# Altium integrated library TI Power Management DC-DC Controller (External Switch).IntLib: 349 symbols (part 4 of 28)
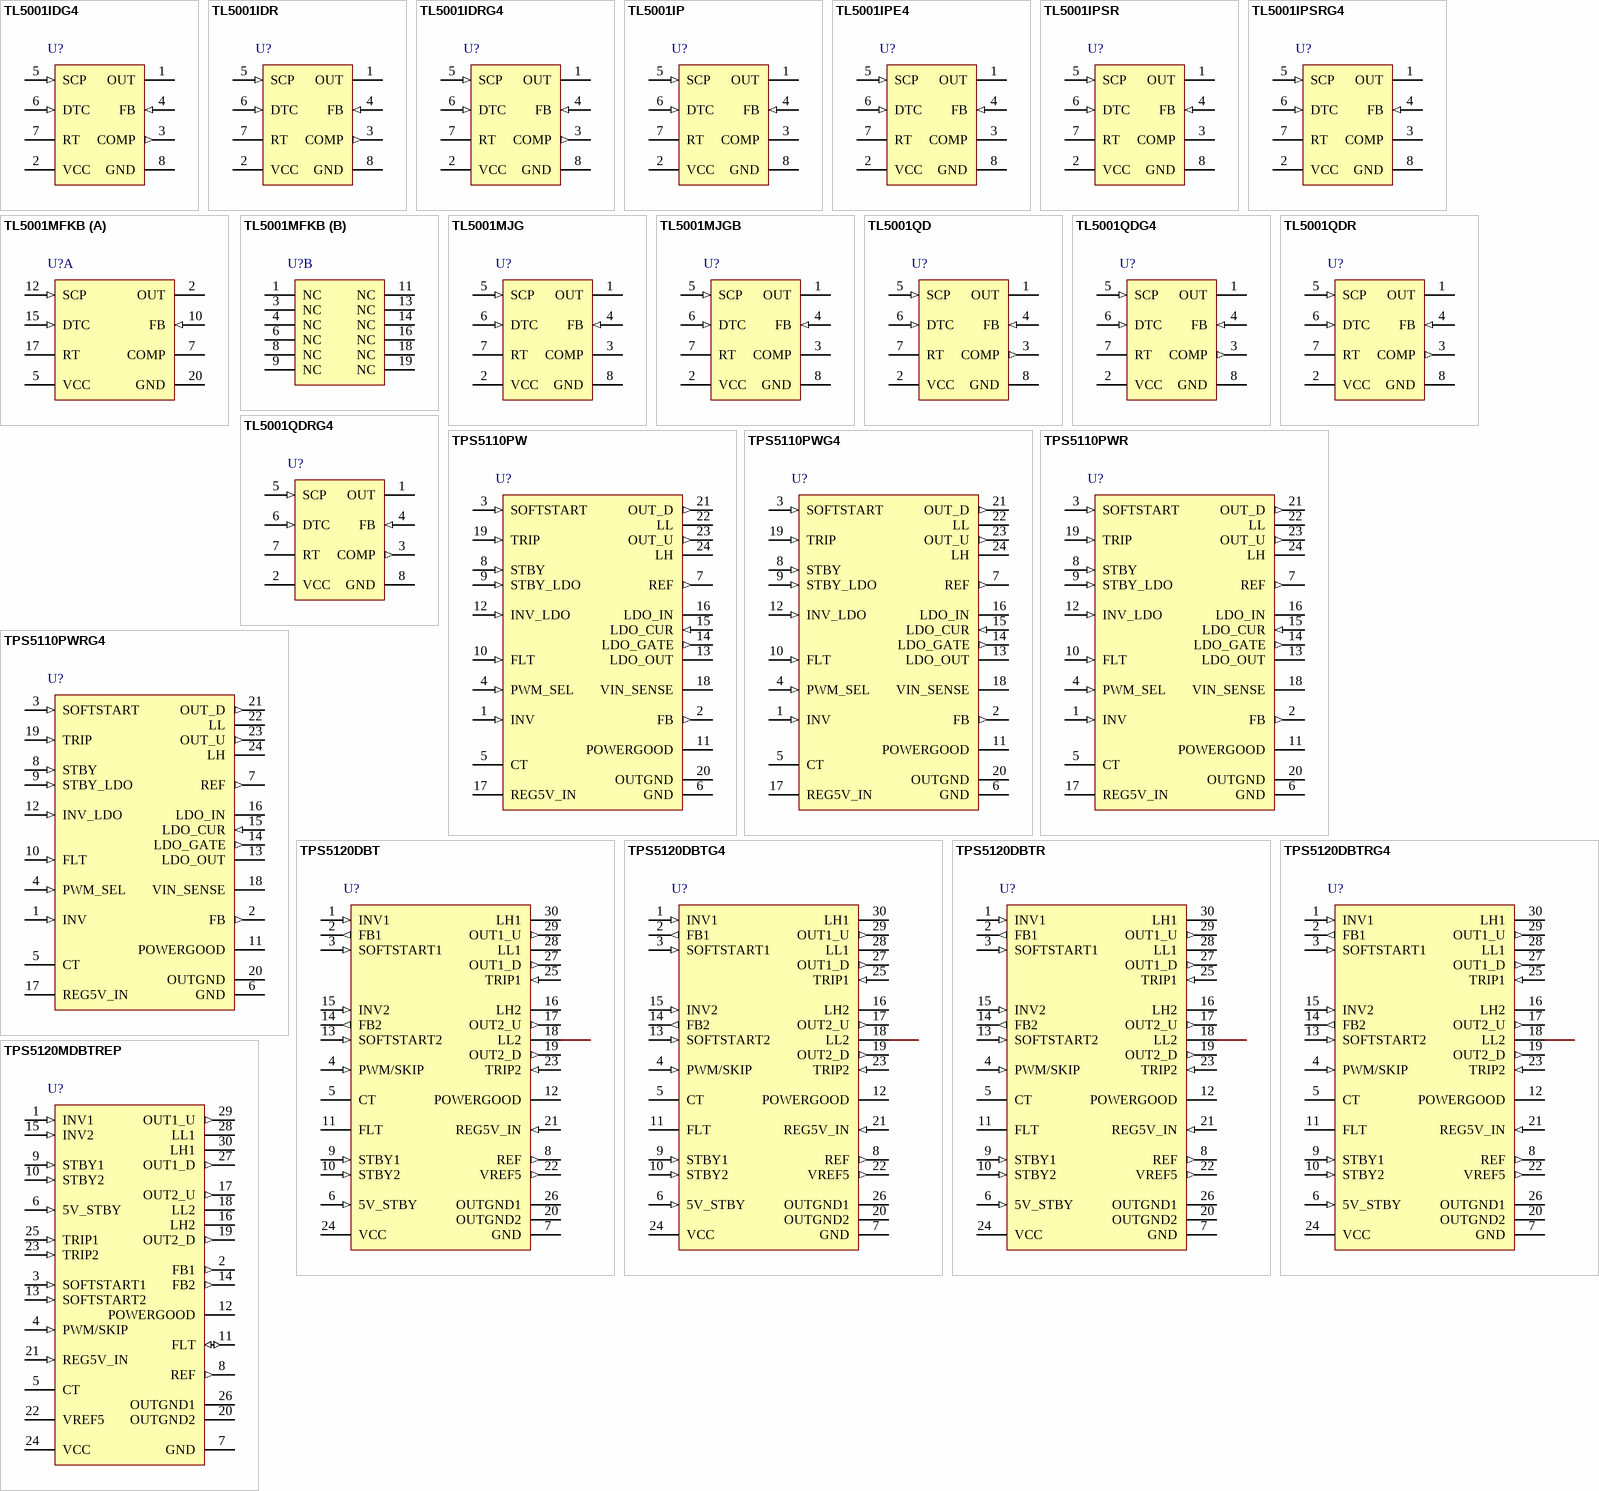
[diagram p17: symbols TL5001IDG4 to TPS5120MDBTREP]

## TPS5120DBTG4
designator U?
Dual Output, Two-Phase Synchronous Buck Controller with Wide Input Voltage Range, 80 % Duty Cycle, 4.5 to 28 V, -40 to 85 degC, 30-pin TSSOP (DBT), Green (RoHS & no Sb/Br); Manufacturer: Texas Instruments; PartNumber: TPS5120DBTG4; Duty Cycle(Max)(%): 80; Iout(Max)(A): 20; Iout2(A): 15; Regulated Outputs(#): 2; SubFamily: Multiple-Output Switching Controller; Switching Frequency(Max)(kHz): 500; Synchronous Rectification: TRUE; Vin(Max)(V): 28; Vin(Min)(V): 4.5; Vout(Max)(V): 26; Vout(Min)(V): 0.9; DatasheetVersion: SLVS278E; PackageVersion: Sep-2005; PackageReference: DBT30; PackageDescription: 30-Pin Thin Shrink Small Outline Package 0.5 mm Pitch; Supplier 1: Digi-Key; Supplier Part Number 1: TPS5120DBTG4-ND; Supplier 2: Farnell; Supplier Part Number 2: 1234735; Supplier 3: Newark; Supplier Part Number 3: 13M3290; Supplier 4: Mouser; Supplier Part Number 4: 595-TPS5120DBTG4; Eco-Plan: Green (RoHS & no Sb/Br); Topology: Buck; Vout2(Max)(V): 26; Vout2(Min)(V): 0.9; Mounting Technology: Surface Mount; Code_JEDEC: MO-153; ComponentLink1Description: Datasheet; ComponentLink1URL: http://www.ti.com/general/docs/lit/getliterature.tsp?genericPartNumber=TPS5120&fileType=pdf; ComponentLink2Description: Package Specification; ComponentLink2URL: http://www.ti.com/litv/pdf/mpds019h
footprint DBT30_N (TSSOP, 30-Leads, Body 7.8x4.4mm, Pitch 0.5mm, IPC Medium Density)
footprint DBT30_L (TSSOP, 30-Leads, Body 7.8x4.4mm, Pitch 0.5mm, IPC High Density)
footprint DBT30_M (TSSOP, 30-Leads, Body 7.8x4.4mm, Pitch 0.5mm, IPC Low Density)
pins: 1 INV1 (in) "Inverting input of the CH1 error amplifier, skip comparator, and OVP1/UVP1 comparator", 2 FB1 (out) "Feedback output of CH1 error amplifier", 3 SOFTSTART1 (in) "External capacitor from SOFTSTART1 to GND for CH1 softstart control. Separate soft-start terminals make it possible to set the start-up time of each output independently.", 4 PWM/SKIP (in) "PWM/SKIP mode select pin. The PWM/SKIP pin is used to change the output’s operating mode. If this terminal is lower than 0.5 V, it works in PWM mode. When a minimum voltage of 2 V is applied, the device operates in skip mode.(See Datasheet)", 5 CT "External capacitor from CT to GND for adjusting the triangle oscillator", 6 5V_STBY (in) "5-V linear regulator control", 7 GND (power) "Control GND", 8 REF (out) "0.85-V reference voltage output. The 0.85-V reference voltage is used for setting the output voltage and the voltage protection. This reference voltage is dropped down from a 5-V regulator.", 9 STBY1 (in) "Standby control for CH1. SMPS1 can be switched into standby mode separately by grounding the STBY1 pin.", 10 STBY2 (in) "Standby control for CH2. SMPS2 can be switched into standby mode separately by grounding the STBY2 pin.", 11 FLT "Fault latch timer pin. An external capacitor is connected between FLT and GND to set the FLT enable time up.", 12 POWERGOOD (oc) "Power good open-drain output. When low, POWERGOOD reports an output fail condition. PG comparators monitor both SMPS’s over voltage and UVLO of VREF5. The threshold is +/-7%. When the SMPS starts up, the POWERGOOD pin’s (See Datasheet)", 13 SOFTSTART2 (in) "External capacitor from SOFTSTART2 to GND for CH2 softstart control. Separate soft-start terminals make it possible to set the start-up time of each output independently.", 14 FB2 (out) "Feedback output of CH2 error amplifier", 15 INV2 (in) "Inverting input of the CH2 error amplifier, skip comparator, and OVP2/UVP2 comparator", 16 LH2 (power) "Bootstrap capacitor connection for CH2 high-side gate drive", 17 OUT2_U (out) "Gate drive output for CH2 high-side switching FETs", 18 LL2 (power) "Bootstrap this pin low for CH2 high-side gate driving return and output current protection. Connect this pin to the junction of the high-side and low-side FETs for a floating drive configuration.", 19 OUT2_D (out) "Gate drive output for CH2 low-side gate drive", 20 OUTGND2 (power) "Ground for CH2 FET drivers", 21 REG5V_IN (in) "External 5-V input", 22 VREF5 (out) "5-V internal regulator output", 23 TRIP2 (in) "External resistor connection for CH2 output current control", 24 VCC (power) "Supply voltage input", 25 TRIP1 (in) "External resistor connection for CH1 output current control", 26 OUTGND1 (power) "Ground for CH1 FET drivers", 27 OUT1_D (out) "Gate drive output for CH1 low-side gate drive", 28 LL1 (power) "Bootstrap this pin low for CH1 high-side gate driving return and output current protection. Connect this pin to the junction of the high-side and low-side FETs for a floating drive configuration.", 29 OUT1_U (out) "Gate drive output for CH1 high-side switching FETs", 30 LH1 (power) "Bootstrap capacitor connection for CH1 high-side gate drive"

## TPS5120DBTR
designator U?
Dual Output, Two-Phase Synchronous Buck Controller with Wide Input Voltage Range, 80 % Duty Cycle, 4.5 to 28 V, -40 to 85 degC, 30-pin TSSOP (DBT), Green (RoHS & no Sb/Br); Manufacturer: Texas Instruments; PartNumber: TPS5120DBTR; Duty Cycle(Max)(%): 80; Iout(Max)(A): 20; Iout2(A): 15; Regulated Outputs(#): 2; SubFamily: Multiple-Output Switching Controller; Switching Frequency(Max)(kHz): 500; Synchronous Rectification: TRUE; Vin(Max)(V): 28; Vin(Min)(V): 4.5; Vout(Max)(V): 26; Vout(Min)(V): 0.9; DatasheetVersion: SLVS278E; PackageVersion: Sep-2005; PackageReference: DBT30; PackageDescription: 30-Pin Thin Shrink Small Outline Package 0.5 mm Pitch; Supplier 1: Digi-Key; Supplier Part Number 1: 296-26979-2-ND; Supplier 2: Digi-Key; Supplier Part Number 2: 296-26979-1-ND; Supplier 3: Digi-Key; Supplier Part Number 3: 296-26979-6-ND; Supplier 4: Mouser; Supplier Part Number 4: 595-TPS5120DBTR; Eco-Plan: Green (RoHS & no Sb/Br); Topology: Buck; Vout2(Max)(V): 26; Vout2(Min)(V): 0.9; Mounting Technology: Surface Mount; Code_JEDEC: MO-153; ComponentLink1Description: Datasheet; ComponentLink1URL: http://www.ti.com/general/docs/lit/getliterature.tsp?genericPartNumber=TPS5120&fileType=pdf; ComponentLink2Description: Package Specification; ComponentLink2URL: http://www.ti.com/litv/pdf/mpds019h
footprint DBT30_N (TSSOP, 30-Leads, Body 7.8x4.4mm, Pitch 0.5mm, IPC Medium Density)
footprint DBT30_L (TSSOP, 30-Leads, Body 7.8x4.4mm, Pitch 0.5mm, IPC High Density)
footprint DBT30_M (TSSOP, 30-Leads, Body 7.8x4.4mm, Pitch 0.5mm, IPC Low Density)
pins: 1 INV1 (in) "Inverting input of the CH1 error amplifier, skip comparator, and OVP1/UVP1 comparator", 2 FB1 (out) "Feedback output of CH1 error amplifier", 3 SOFTSTART1 (in) "External capacitor from SOFTSTART1 to GND for CH1 softstart control. Separate soft-start terminals make it possible to set the start-up time of each output independently.", 4 PWM/SKIP (in) "PWM/SKIP mode select pin. The PWM/SKIP pin is used to change the output’s operating mode. If this terminal is lower than 0.5 V, it works in PWM mode. When a minimum voltage of 2 V is applied, the device operates in skip mode.(See Datasheet)", 5 CT "External capacitor from CT to GND for adjusting the triangle oscillator", 6 5V_STBY (in) "5-V linear regulator control", 7 GND (power) "Control GND", 8 REF (out) "0.85-V reference voltage output. The 0.85-V reference voltage is used for setting the output voltage and the voltage protection. This reference voltage is dropped down from a 5-V regulator.", 9 STBY1 (in) "Standby control for CH1. SMPS1 can be switched into standby mode separately by grounding the STBY1 pin.", 10 STBY2 (in) "Standby control for CH2. SMPS2 can be switched into standby mode separately by grounding the STBY2 pin.", 11 FLT "Fault latch timer pin. An external capacitor is connected between FLT and GND to set the FLT enable time up.", 12 POWERGOOD (oc) "Power good open-drain output. When low, POWERGOOD reports an output fail condition. PG comparators monitor both SMPS’s over voltage and UVLO of VREF5. The threshold is +/-7%. When the SMPS starts up, the POWERGOOD pin’s (See Datasheet)", 13 SOFTSTART2 (in) "External capacitor from SOFTSTART2 to GND for CH2 softstart control. Separate soft-start terminals make it possible to set the start-up time of each output independently.", 14 FB2 (out) "Feedback output of CH2 error amplifier", 15 INV2 (in) "Inverting input of the CH2 error amplifier, skip comparator, and OVP2/UVP2 comparator", 16 LH2 (power) "Bootstrap capacitor connection for CH2 high-side gate drive", 17 OUT2_U (out) "Gate drive output for CH2 high-side switching FETs", 18 LL2 (power) "Bootstrap this pin low for CH2 high-side gate driving return and output current protection. Connect this pin to the junction of the high-side and low-side FETs for a floating drive configuration.", 19 OUT2_D (out) "Gate drive output for CH2 low-side gate drive", 20 OUTGND2 (power) "Ground for CH2 FET drivers", 21 REG5V_IN (in) "External 5-V input", 22 VREF5 (out) "5-V internal regulator output", 23 TRIP2 (in) "External resistor connection for CH2 output current control", 24 VCC (power) "Supply voltage input", 25 TRIP1 (in) "External resistor connection for CH1 output current control", 26 OUTGND1 (power) "Ground for CH1 FET drivers", 27 OUT1_D (out) "Gate drive output for CH1 low-side gate drive", 28 LL1 (power) "Bootstrap this pin low for CH1 high-side gate driving return and output current protection. Connect this pin to the junction of the high-side and low-side FETs for a floating drive configuration.", 29 OUT1_U (out) "Gate drive output for CH1 high-side switching FETs", 30 LH1 (power) "Bootstrap capacitor connection for CH1 high-side gate drive"

## TPS5120DBTRG4
designator U?
Dual Output, Two-Phase Synchronous Buck Controller with Wide Input Voltage Range, 80 % Duty Cycle, 4.5 to 28 V, -40 to 85 degC, 30-pin TSSOP (DBT), Green (RoHS & no Sb/Br); Manufacturer: Texas Instruments; PartNumber: TPS5120DBTRG4; Duty Cycle(Max)(%): 80; Iout(Max)(A): 20; Iout2(A): 15; Regulated Outputs(#): 2; SubFamily: Multiple-Output Switching Controller; Switching Frequency(Max)(kHz): 500; Synchronous Rectification: TRUE; Vin(Max)(V): 28; Vin(Min)(V): 4.5; Vout(Max)(V): 26; Vout(Min)(V): 0.9; DatasheetVersion: SLVS278E; PackageVersion: Sep-2005; PackageReference: DBT30; PackageDescription: 30-Pin Thin Shrink Small Outline Package 0.5 mm Pitch; Supplier 1: Digi-Key; Supplier Part Number 1: TPS5120DBTRG4-ND; Supplier 2: Mouser; Supplier Part Number 2: 595-TPS5120DBTRG4; Eco-Plan: Green (RoHS & no Sb/Br); Topology: Buck; Vout2(Max)(V): 26; Vout2(Min)(V): 0.9; Mounting Technology: Surface Mount; Code_JEDEC: MO-153; ComponentLink1Description: Datasheet; ComponentLink1URL: http://www.ti.com/general/docs/lit/getliterature.tsp?genericPartNumber=TPS5120&fileType=pdf; ComponentLink2Description: Package Specification; ComponentLink2URL: http://www.ti.com/litv/pdf/mpds019h
footprint DBT30_N (TSSOP, 30-Leads, Body 7.8x4.4mm, Pitch 0.5mm, IPC Medium Density)
footprint DBT30_L (TSSOP, 30-Leads, Body 7.8x4.4mm, Pitch 0.5mm, IPC High Density)
footprint DBT30_M (TSSOP, 30-Leads, Body 7.8x4.4mm, Pitch 0.5mm, IPC Low Density)
pins: 1 INV1 (in) "Inverting input of the CH1 error amplifier, skip comparator, and OVP1/UVP1 comparator", 2 FB1 (out) "Feedback output of CH1 error amplifier", 3 SOFTSTART1 (in) "External capacitor from SOFTSTART1 to GND for CH1 softstart control. Separate soft-start terminals make it possible to set the start-up time of each output independently.", 4 PWM/SKIP (in) "PWM/SKIP mode select pin. The PWM/SKIP pin is used to change the output’s operating mode. If this terminal is lower than 0.5 V, it works in PWM mode. When a minimum voltage of 2 V is applied, the device operates in skip mode.(See Datasheet)", 5 CT "External capacitor from CT to GND for adjusting the triangle oscillator", 6 5V_STBY (in) "5-V linear regulator control", 7 GND (power) "Control GND", 8 REF (out) "0.85-V reference voltage output. The 0.85-V reference voltage is used for setting the output voltage and the voltage protection. This reference voltage is dropped down from a 5-V regulator.", 9 STBY1 (in) "Standby control for CH1. SMPS1 can be switched into standby mode separately by grounding the STBY1 pin.", 10 STBY2 (in) "Standby control for CH2. SMPS2 can be switched into standby mode separately by grounding the STBY2 pin.", 11 FLT "Fault latch timer pin. An external capacitor is connected between FLT and GND to set the FLT enable time up.", 12 POWERGOOD (oc) "Power good open-drain output. When low, POWERGOOD reports an output fail condition. PG comparators monitor both SMPS’s over voltage and UVLO of VREF5. The threshold is +/-7%. When the SMPS starts up, the POWERGOOD pin’s (See Datasheet)", 13 SOFTSTART2 (in) "External capacitor from SOFTSTART2 to GND for CH2 softstart control. Separate soft-start terminals make it possible to set the start-up time of each output independently.", 14 FB2 (out) "Feedback output of CH2 error amplifier", 15 INV2 (in) "Inverting input of the CH2 error amplifier, skip comparator, and OVP2/UVP2 comparator", 16 LH2 (power) "Bootstrap capacitor connection for CH2 high-side gate drive", 17 OUT2_U (out) "Gate drive output for CH2 high-side switching FETs", 18 LL2 (power) "Bootstrap this pin low for CH2 high-side gate driving return and output current protection. Connect this pin to the junction of the high-side and low-side FETs for a floating drive configuration.", 19 OUT2_D (out) "Gate drive output for CH2 low-side gate drive", 20 OUTGND2 (power) "Ground for CH2 FET drivers", 21 REG5V_IN (in) "External 5-V input", 22 VREF5 (out) "5-V internal regulator output", 23 TRIP2 (in) "External resistor connection for CH2 output current control", 24 VCC (power) "Supply voltage input", 25 TRIP1 (in) "External resistor connection for CH1 output current control", 26 OUTGND1 (power) "Ground for CH1 FET drivers", 27 OUT1_D (out) "Gate drive output for CH1 low-side gate drive", 28 LL1 (power) "Bootstrap this pin low for CH1 high-side gate driving return and output current protection. Connect this pin to the junction of the high-side and low-side FETs for a floating drive configuration.", 29 OUT1_U (out) "Gate drive output for CH1 high-side switching FETs", 30 LH1 (power) "Bootstrap capacitor connection for CH1 high-side gate drive"

## TPS5120MDBTREP
designator U?
Enhanced Product Dual Output Two-Phase Synchronous Buck DC / DC Controller, 100 % Duty Cycle, 4.5 to 28 V, -55 to 125 degC, 30-pin TSSOP (DBT), Green (RoHS & no Sb/Br); Manufacturer: Texas Instruments; PartNumber: TPS5120MDBTREP; Duty Cycle(Max)(%): 100; Iout(Max)(A): 1.5; Regulated Outputs(#): 2; SubFamily: Multiple-Output Switching Controller; Switching Frequency(Max)(kHz): 500; Vin(Max)(V): 28; Vin(Min)(V): 4.5; DatasheetVersion: SGLS224A; PackageVersion: Sep-2005; PackageReference: DBT30; PackageDescription: 30-Pin Thin Shrink Small Outline Package 0.5 mm Pitch; Supplier 1: Digi-Key; Supplier Part Number 1: 296-21272-2-ND; Supplier 2: Digi-Key; Supplier Part Number 2: 296-21272-1-ND; Supplier 3: Digi-Key; Supplier Part Number 3: 296-21272-6-ND; Supplier 4: Newark; Supplier Part Number 4: 46M1111; Supplier 5: Mouser; Supplier Part Number 5: 595-TPS5120MDBTREP; Eco-Plan: Green (RoHS & no Sb/Br); Topology: Buck; Mounting Technology: Surface Mount; Code_JEDEC: MO-153; ComponentLink1Description: Datasheet; ComponentLink1URL: http://www.ti.com/general/docs/lit/getliterature.tsp?genericPartNumber=TPS5120-EP&fileType=pdf; ComponentLink2Description: Package Specification; ComponentLink2URL: http://www.ti.com/litv/pdf/mpds019h
footprint DBT30_N (TSSOP, 30-Leads, Body 7.8x4.4mm, Pitch 0.5mm, IPC Medium Density)
footprint DBT30_L (TSSOP, 30-Leads, Body 7.8x4.4mm, Pitch 0.5mm, IPC High Density)
footprint DBT30_M (TSSOP, 30-Leads, Body 7.8x4.4mm, Pitch 0.5mm, IPC Low Density)
pins: 1 INV1 (in) "Inverting input of the CH1 error amplifier, skip comparator, and OVP1/UVP1 comparator", 2 FB1 (out) "Feedback output of CH1 error amplifier", 3 SOFTSTART1 (in) "External capacitor from SOFTSTART1 to GND for CH1 softstart control. Separate soft-start terminals make it possible to set the start-up time of each output independently", 4 PWM/SKIP (in) "PWM/SKIP mode select pin. The PWM/SKIP pin is used to change the output’s operating mode. If this terminal is lower than 0.5 V, it works in PWM mode. When a minimum voltage of 2 V is applied, the device operates in skip mode.(See Datasheet)", 5 CT "External capacitor from CT to GND for adjusting the triangle oscillator", 6 5V_STBY (in) "5-V linear regulator control", 7 GND (power) "Control GND", 8 REF (out) "0.85-V reference voltage output. The 0.85-V reference voltage is used for setting the output voltage and the voltage protection. This reference voltage is dropped down from a 5-V regulator", 9 STBY1 (in) "Standby control for CH1. SMPS1 can be switched into standby mode separately by grounding the STBY1 pin.", 10 STBY2 (in) "Standby control for CH2. SMPS2 can be switched into standby mode separately by grounding the STBY2 pin.", 11 FLT (io) "Fault latch timer pin. An external capacitor is connected between FLT and GND to set the FLT enable time up", 12 POWERGOOD (oc) "Power good open-drain output. When low, POWERGOOD reports an output fail condition. PG comparators monitor both SMPS’s over voltage and UVLO of VREF5. The threshold is +/-7%. When the SMPS starts up, the POWERGOOD pin’s (See Datasheet)", 13 SOFTSTART2 (in) "External capacitor from SOFTSTART2 to GND for CH2 softstart control. Separate soft-start terminals make it possible to set the start-up time of each output independently.", 14 FB2 (out) "Feedback output of CH2 error amplifier", 15 INV2 (in) "Inverting input of the CH2 error amplifier, skip comparator, and OVP2/UVP2 comparator", 16 LH2 (power) "Bootstrap capacitor connection for CH2 high-side gate drive", 17 OUT2_U (out) "Gate drive output for CH2 high-side switching FETs", 18 LL2 (power) "Bootstrap this pin low for CH2 high-side gate driving return and output current protection. Connect this pin to the junction of the high-side and low-side FETs for a floating drive configuration", 19 OUT2_D (out) "Gate drive output for CH2 low-side gate drive", 20 OUTGND2 (power) "Ground for CH2 FET drivers", 21 REG5V_IN (in) "External 5-V input", 22 VREF5 (power) "5-V internal regulator output", 23 TRIP2 (in) "External resistor connection for CH2 output current control", 24 VCC (power) "Supply voltage input", 25 TRIP1 (in) "External resistor connection for CH1 output current control", 26 OUTGND1 (power) "Ground for CH1 FET drivers", 27 OUT1_D (out) "Gate drive output for CH1 low-side gate drive", 28 LL1 (power) "Bootstrap this pin low for CH1 high-side gate driving return and output current protection. Connect this pin to the junction of the high-side and low-side FETs for a floating drive configuration", 29 OUT1_U (out) "Gate drive output for CH1 high-side switching FETs", 30 LH1 (power) "Bootstrap capacitor connection for CH1 high-side gate drive"

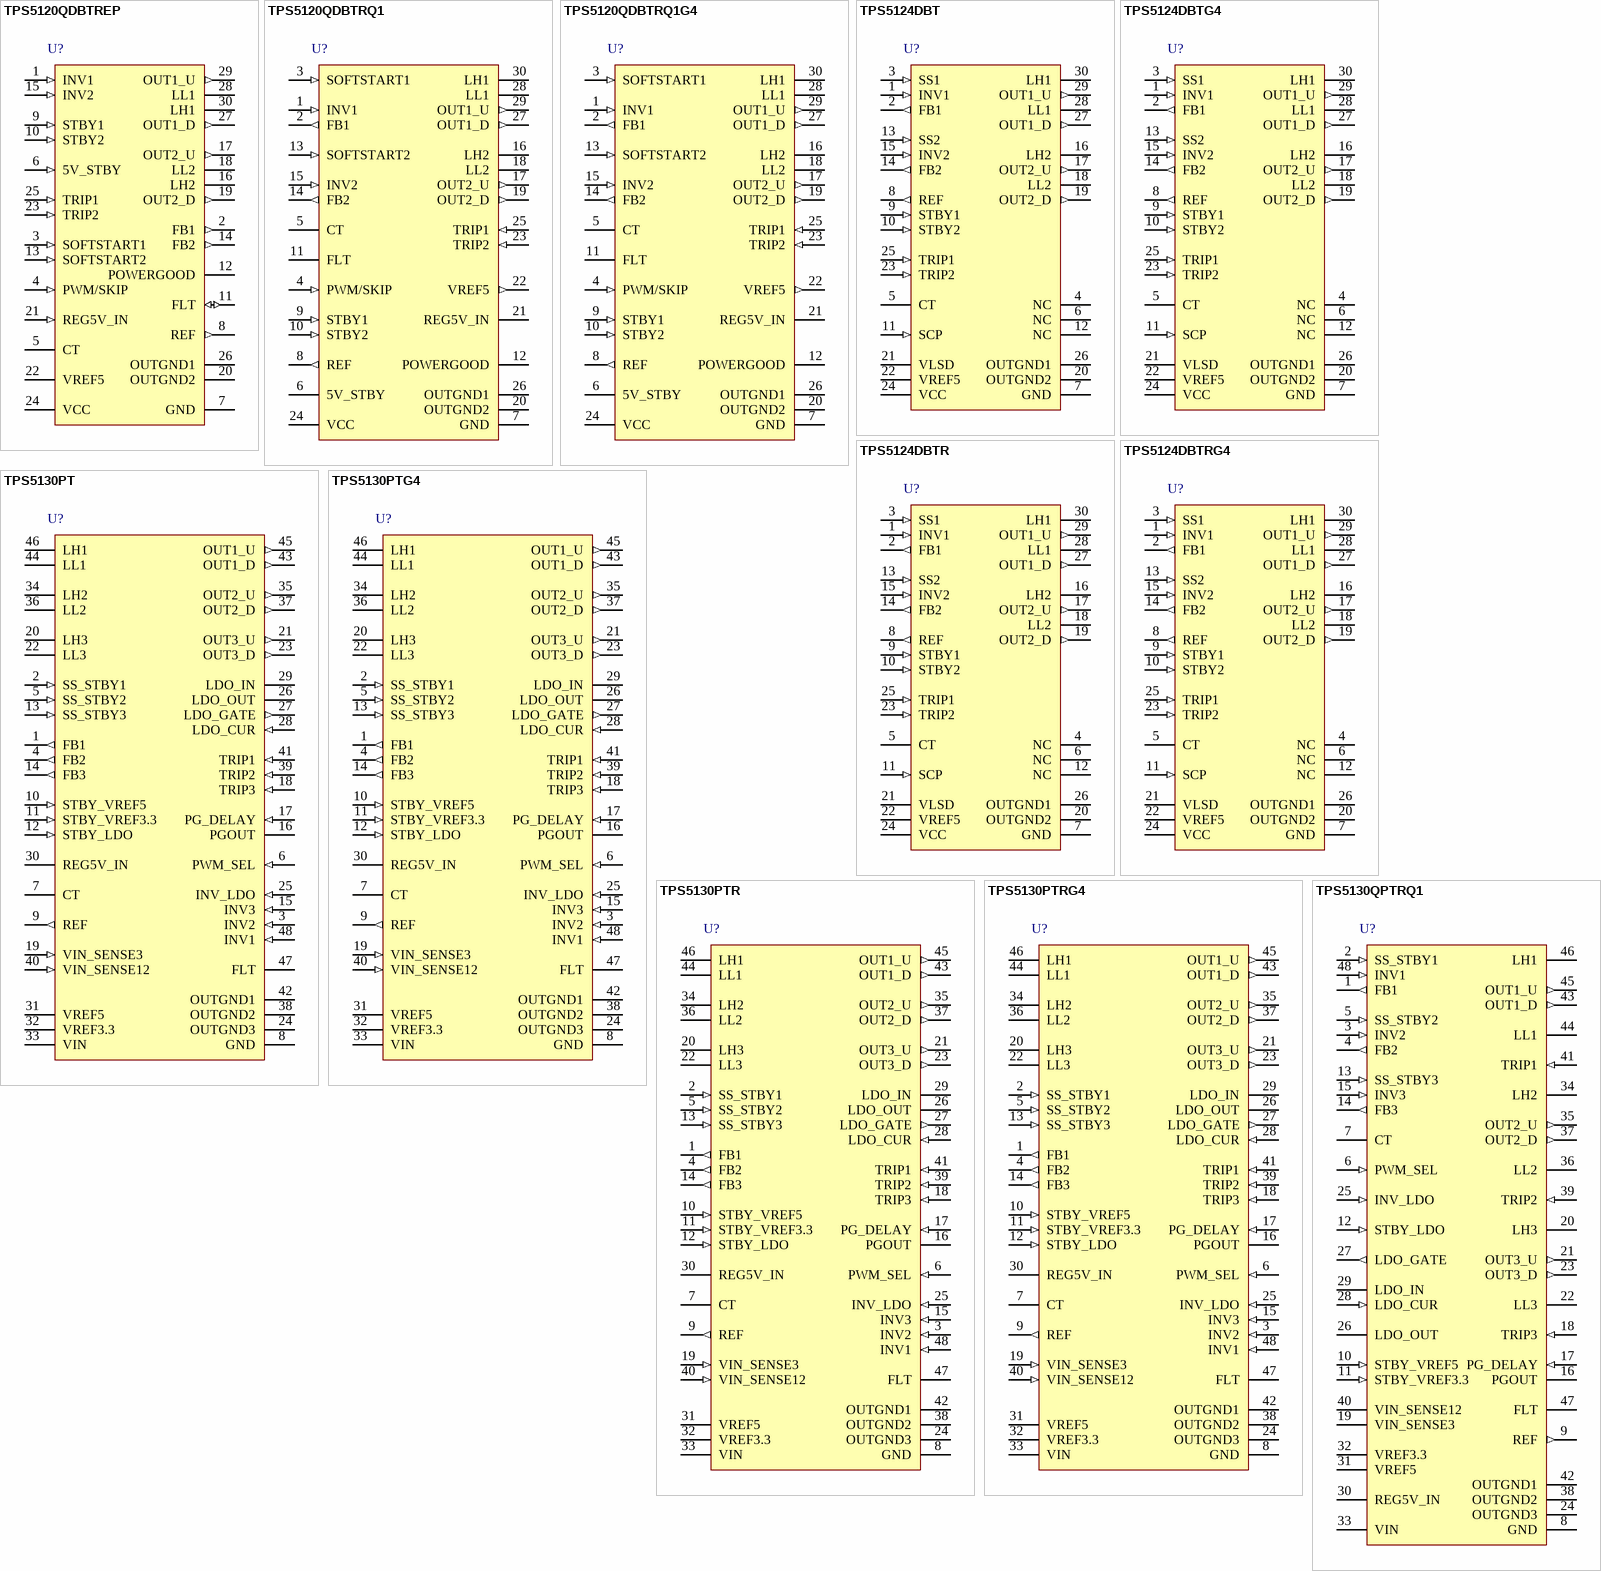
[diagram p3: symbols TPS5120QDBTREP to TPS5130QPTRQ1]

## TPS5120QDBTREP
designator U?
Enhanced Product Dual Output Two-Phase Synchronous Buck DC / DC Controller, 100 % Duty Cycle, 4.5 to 28 V, -55 to 125 degC, 30-pin TSSOP (DBT), Green (RoHS & no Sb/Br); Manufacturer: Texas Instruments; PartNumber: TPS5120QDBTREP; Duty Cycle(Max)(%): 100; Iout(Max)(A): 1.5; Regulated Outputs(#): 2; SubFamily: Multiple-Output Switching Controller; Switching Frequency(Max)(kHz): 500; Vin(Max)(V): 28; Vin(Min)(V): 4.5; DatasheetVersion: SGLS224A; PackageVersion: Sep-2005; PackageReference: DBT30; PackageDescription: 30-Pin Thin Shrink Small Outline Package 0.5 mm Pitch; Supplier 1: Digi-Key; Supplier Part Number 1: 296-18639-2-ND; Supplier 2: Digi-Key; Supplier Part Number 2: 296-18639-1-ND; Supplier 3: Digi-Key; Supplier Part Number 3: 296-18639-6-ND; Supplier 4: Mouser; Supplier Part Number 4: 595-TPS5120QDBTREP; Eco-Plan: Green (RoHS & no Sb/Br); Topology: Buck; Mounting Technology: Surface Mount; Code_JEDEC: MO-153; ComponentLink1Description: Datasheet; ComponentLink1URL: http://www.ti.com/general/docs/lit/getliterature.tsp?genericPartNumber=TPS5120-EP&fileType=pdf; ComponentLink2Description: Package Specification; ComponentLink2URL: http://www.ti.com/litv/pdf/mpds019h
footprint DBT30_N (TSSOP, 30-Leads, Body 7.8x4.4mm, Pitch 0.5mm, IPC Medium Density)
footprint DBT30_L (TSSOP, 30-Leads, Body 7.8x4.4mm, Pitch 0.5mm, IPC High Density)
footprint DBT30_M (TSSOP, 30-Leads, Body 7.8x4.4mm, Pitch 0.5mm, IPC Low Density)
pins: 1 INV1 (in) "Inverting input of the CH1 error amplifier, skip comparator, and OVP1/UVP1 comparator", 2 FB1 (out) "Feedback output of CH1 error amplifier", 3 SOFTSTART1 (in) "External capacitor from SOFTSTART1 to GND for CH1 softstart control. Separate soft-start terminals make it possible to set the start-up time of each output independently", 4 PWM/SKIP (in) "PWM/SKIP mode select pin. The PWM/SKIP pin is used to change the output’s operating mode. If this terminal is lower than 0.5 V, it works in PWM mode. When a minimum voltage of 2 V is applied, the device operates in skip mode.(See Datasheet)", 5 CT "External capacitor from CT to GND for adjusting the triangle oscillator", 6 5V_STBY (in) "5-V linear regulator control", 7 GND (power) "Control GND", 8 REF (out) "0.85-V reference voltage output. The 0.85-V reference voltage is used for setting the output voltage and the voltage protection. This reference voltage is dropped down from a 5-V regulator", 9 STBY1 (in) "Standby control for CH1. SMPS1 can be switched into standby mode separately by grounding the STBY1 pin.", 10 STBY2 (in) "Standby control for CH2. SMPS2 can be switched into standby mode separately by grounding the STBY2 pin.", 11 FLT (io) "Fault latch timer pin. An external capacitor is connected between FLT and GND to set the FLT enable time up", 12 POWERGOOD (oc) "Power good open-drain output. When low, POWERGOOD reports an output fail condition. PG comparators monitor both SMPS’s over voltage and UVLO of VREF5. The threshold is +/-7%. When the SMPS starts up, the POWERGOOD pin’s (See Datasheet)", 13 SOFTSTART2 (in) "External capacitor from SOFTSTART2 to GND for CH2 softstart control. Separate soft-start terminals make it possible to set the start-up time of each output independently.", 14 FB2 (out) "Feedback output of CH2 error amplifier", 15 INV2 (in) "Inverting input of the CH2 error amplifier, skip comparator, and OVP2/UVP2 comparator", 16 LH2 (power) "Bootstrap capacitor connection for CH2 high-side gate drive", 17 OUT2_U (out) "Gate drive output for CH2 high-side switching FETs", 18 LL2 (power) "Bootstrap this pin low for CH2 high-side gate driving return and output current protection. Connect this pin to the junction of the high-side and low-side FETs for a floating drive configuration", 19 OUT2_D (out) "Gate drive output for CH2 low-side gate drive", 20 OUTGND2 (power) "Ground for CH2 FET drivers", 21 REG5V_IN (in) "External 5-V input", 22 VREF5 (power) "5-V internal regulator output", 23 TRIP2 (in) "External resistor connection for CH2 output current control", 24 VCC (power) "Supply voltage input", 25 TRIP1 (in) "External resistor connection for CH1 output current control", 26 OUTGND1 (power) "Ground for CH1 FET drivers", 27 OUT1_D (out) "Gate drive output for CH1 low-side gate drive", 28 LL1 (power) "Bootstrap this pin low for CH1 high-side gate driving return and output current protection. Connect this pin to the junction of the high-side and low-side FETs for a floating drive configuration", 29 OUT1_U (out) "Gate drive output for CH1 high-side switching FETs", 30 LH1 (power) "Bootstrap capacitor connection for CH1 high-side gate drive"

## TPS5120QDBTRQ1
designator U?
Automotive Catalog Dual Output Two-Phase Synchronous Buck DC / DC Controller, 100 % Duty Cycle, 4.5 to 28 V, -40 to 125 degC, 30-pin TSSOP (DBT), Green (RoHS & no Sb/Br); Manufacturer: Texas Instruments; PartNumber: TPS5120QDBTRQ1; Duty Cycle(Max)(%): 100; Iout(Max)(A): 1.5; Regulated Outputs(#): 2; SubFamily: Multiple-Output Switching Controller; Switching Frequency(Max)(kHz): 500; Vin(Max)(V): 28; Vin(Min)(V): 4.5; DatasheetVersion: SGLS225B; PackageVersion: Sep-2005; PackageReference: DBT30; PackageDescription: 30-Pin Thin Shrink Small Outline Package 0.5 mm Pitch; Supplier 1: Digi-Key; Supplier Part Number 1: TPS5120QDBTRQ1-ND; Supplier 2: Mouser; Supplier Part Number 2: 595-TPS5120QDBTRQ1; Eco-Plan: Green (RoHS & no Sb/Br); Topology: Buck; Mounting Technology: Surface Mount; Code_JEDEC: MO-153; ComponentLink1Description: Datasheet; ComponentLink1URL: http://www.ti.com/general/docs/lit/getliterature.tsp?genericPartNumber=TPS5120-Q1&fileType=pdf; ComponentLink2Description: Package Specification; ComponentLink2URL: http://www.ti.com/litv/pdf/mpds019h
footprint DBT30_N (TSSOP, 30-Leads, Body 7.8x4.4mm, Pitch 0.5mm, IPC Medium Density)
footprint DBT30_L (TSSOP, 30-Leads, Body 7.8x4.4mm, Pitch 0.5mm, IPC High Density)
footprint DBT30_M (TSSOP, 30-Leads, Body 7.8x4.4mm, Pitch 0.5mm, IPC Low Density)
pins: 1 INV1 (in) "Inverting input of the CH1 error amplifier, skip comparator, and OVP1/UVP1 comparator", 2 FB1 (out) "Feedback output of CH1 error amplifier", 3 SOFTSTART1 (in) "External capacitor from SOFTSTART1 to GND for CH1 softstart control. Separate soft-start terminals make it possible to set the start-up time of each output independently", 4 PWM/SKIP (in) "PWM/SKIP mode select pin. The PWM/SKIP pin is used to change the output’s operating mode. If this terminal is lower than 0.5 V, it works in PWM mode. When a minimum voltage of 2 V is applied, the device operates in skip mode.(See Datasheet)", 5 CT "External capacitor from CT to GND for adjusting the triangle oscillator", 6 5V_STBY (power) "5-V linear regulator control", 7 GND (power) "Control GND", 8 REF (out) "0.85-V reference voltage output. The 0.85-V reference voltage is used for setting the output voltage and the voltage protection. This reference voltage is dropped down from a 5-V regulator", 9 STBY1 (in) "Standby control for CH1. SMPS1 can be switched into standby mode separately by grounding the STBY1 pin", 10 STBY2 (in) "Standby control for CH2. SMPS2 can be switched into standby mode separately by grounding the STBY2 pin", 11 FLT "Fault latch timer pin. An external capacitor is connected between FLT and GND to set the FLT enable time up.", 12 POWERGOOD (oc) "Power good open-drain output. When low, POWERGOOD reports an output fail condition. PG comparators monitor both SMPS’s over voltage and UVLO of VREF5. The threshold is +/-7%. When the SMPS starts up, the POWERGOOD pin’s (See Datasheet)", 13 SOFTSTART2 (in) "External capacitor from SOFTSTART2 to GND for CH2 softstart control. Separate soft-start terminals make it possible to set the start-up time of each output independently", 14 FB2 (out) "Feedback output of CH2 error amplifier", 15 INV2 (in) "Inverting input of the CH2 error amplifier, skip comparator, and OVP2/UVP2 comparator", 16 LH2 (power) "Bootstrap capacitor connection for CH2 high-side gate drive", 17 OUT2_U (out) "Gate drive output for CH2 high-side switching FETs", 18 LL2 (power) "Bootstrap this pin low for CH2 high-side gate driving return and output current protection. Connect this pin to the junction of the high-side and low-side FETs for a floating drive configuration", 19 OUT2_D (out) "Gate drive output for CH2 low-side gate drive", 20 OUTGND2 (power) "Ground for CH2 FET drivers", 21 REG5V_IN (power) "External 5-V input", 22 VREF5 (out) "5-V internal regulator output", 23 TRIP2 (in) "External resistor connection for CH2 output current control", 24 VCC (power) "Supply voltage input", 25 TRIP1 (in) "External resistor connection for CH1 output current control", 26 OUTGND1 (power) "Ground for CH1 FET drivers", 27 OUT1_D (out) "Gate drive output for CH1 low-side gate drive", 28 LL1 (power) "Bootstrap this pin low for CH1 high-side gate driving return and output current protection. Connect this pin to the junction of the high-side and low-side FETs for a floating drive configuration", 29 OUT1_U (out) "Gate drive output for CH1 high-side switching FETs", 30 LH1 (power) "Bootstrap capacitor connection for CH1 high-side gate drive"

## TPS5120QDBTRQ1G4
designator U?
Automotive Catalog Dual Output Two-Phase Synchronous Buck DC / DC Controller, 100 % Duty Cycle, 4.5 to 28 V, -40 to 125 degC, 30-pin TSSOP (DBT), Green (RoHS & no Sb/Br); Manufacturer: Texas Instruments; PartNumber: TPS5120QDBTRQ1G4; Duty Cycle(Max)(%): 100; Iout(Max)(A): 1.5; Regulated Outputs(#): 2; SubFamily: Multiple-Output Switching Controller; Switching Frequency(Max)(kHz): 500; Vin(Max)(V): 28; Vin(Min)(V): 4.5; DatasheetVersion: SGLS225B; PackageVersion: Sep-2005; PackageReference: DBT30; PackageDescription: 30-Pin Thin Shrink Small Outline Package 0.5 mm Pitch; Supplier 1: Digi-Key; Supplier Part Number 1: 296-22052-2-ND; Supplier 2: Digi-Key; Supplier Part Number 2: 296-22052-1-ND; Supplier 3: Newark; Supplier Part Number 3: 10M0625; Supplier 4: Mouser; Supplier Part Number 4: 595-TPS5120QDBTRQ1G4; Eco-Plan: Green (RoHS & no Sb/Br); Topology: Buck; Mounting Technology: Surface Mount; Code_JEDEC: MO-153; ComponentLink1Description: Datasheet; ComponentLink1URL: http://www.ti.com/general/docs/lit/getliterature.tsp?genericPartNumber=TPS5120-Q1&fileType=pdf; ComponentLink2Description: Package Specification; ComponentLink2URL: http://www.ti.com/litv/pdf/mpds019h
footprint DBT30_N (TSSOP, 30-Leads, Body 7.8x4.4mm, Pitch 0.5mm, IPC Medium Density)
footprint DBT30_L (TSSOP, 30-Leads, Body 7.8x4.4mm, Pitch 0.5mm, IPC High Density)
footprint DBT30_M (TSSOP, 30-Leads, Body 7.8x4.4mm, Pitch 0.5mm, IPC Low Density)
pins: 1 INV1 (in) "Inverting input of the CH1 error amplifier, skip comparator, and OVP1/UVP1 comparator", 2 FB1 (out) "Feedback output of CH1 error amplifier", 3 SOFTSTART1 (in) "External capacitor from SOFTSTART1 to GND for CH1 softstart control. Separate soft-start terminals make it possible to set the start-up time of each output independently", 4 PWM/SKIP (in) "PWM/SKIP mode select pin. The PWM/SKIP pin is used to change the output’s operating mode. If this terminal is lower than 0.5 V, it works in PWM mode. When a minimum voltage of 2 V is applied, the device operates in skip mode.(See Datasheet)", 5 CT "External capacitor from CT to GND for adjusting the triangle oscillator", 6 5V_STBY (power) "5-V linear regulator control", 7 GND (power) "Control GND", 8 REF (out) "0.85-V reference voltage output. The 0.85-V reference voltage is used for setting the output voltage and the voltage protection. This reference voltage is dropped down from a 5-V regulator", 9 STBY1 (in) "Standby control for CH1. SMPS1 can be switched into standby mode separately by grounding the STBY1 pin", 10 STBY2 (in) "Standby control for CH2. SMPS2 can be switched into standby mode separately by grounding the STBY2 pin", 11 FLT "Fault latch timer pin. An external capacitor is connected between FLT and GND to set the FLT enable time up.", 12 POWERGOOD (oc) "Power good open-drain output. When low, POWERGOOD reports an output fail condition. PG comparators monitor both SMPS’s over voltage and UVLO of VREF5. The threshold is +/-7%. When the SMPS starts up, the POWERGOOD pin’s (See Datasheet)", 13 SOFTSTART2 (in) "External capacitor from SOFTSTART2 to GND for CH2 softstart control. Separate soft-start terminals make it possible to set the start-up time of each output independently", 14 FB2 (out) "Feedback output of CH2 error amplifier", 15 INV2 (in) "Inverting input of the CH2 error amplifier, skip comparator, and OVP2/UVP2 comparator", 16 LH2 (power) "Bootstrap capacitor connection for CH2 high-side gate drive", 17 OUT2_U (out) "Gate drive output for CH2 high-side switching FETs", 18 LL2 (power) "Bootstrap this pin low for CH2 high-side gate driving return and output current protection. Connect this pin to the junction of the high-side and low-side FETs for a floating drive configuration", 19 OUT2_D (out) "Gate drive output for CH2 low-side gate drive", 20 OUTGND2 (power) "Ground for CH2 FET drivers", 21 REG5V_IN (power) "External 5-V input", 22 VREF5 (out) "5-V internal regulator output", 23 TRIP2 (in) "External resistor connection for CH2 output current control", 24 VCC (power) "Supply voltage input", 25 TRIP1 (in) "External resistor connection for CH1 output current control", 26 OUTGND1 (power) "Ground for CH1 FET drivers", 27 OUT1_D (out) "Gate drive output for CH1 low-side gate drive", 28 LL1 (power) "Bootstrap this pin low for CH1 high-side gate driving return and output current protection. Connect this pin to the junction of the high-side and low-side FETs for a floating drive configuration", 29 OUT1_U (out) "Gate drive output for CH1 high-side switching FETs", 30 LH1 (power) "Bootstrap capacitor connection for CH1 high-side gate drive"

## TPS5124DBT
designator U?
Dual Channel Synchronous Step-Down PWM Controller, 80 % Duty Cycle, 4.5 to 15 V, -40 to 85 degC, 30-pin TSSOP (DBT), Green (RoHS & no Sb/Br); Manufacturer: Texas Instruments; PartNumber: TPS5124DBT; Duty Cycle(Max)(%): 80; Iout(Max)(A): 20; Regulated Outputs(#): 2; SubFamily: Multiple-Output Switching Controller; Switching Frequency(Max)(kHz): 500; Synchronous Rectification: TRUE; Topology: Buck; Vin(Max)(V): 15; Vin(Min)(V): 4.5; Vout(Max)(V): 12; Vout(Min)(V): 0.9; DatasheetVersion: SLUS571; PackageVersion: Sep-2005; PackageReference: DBT30; PackageDescription: 30-Pin Thin Shrink Small Outline Package 0.5 mm Pitch; Supplier 1: Digi-Key; Supplier Part Number 1: 296-15863-5-ND; Supplier 2: Farnell; Supplier Part Number 2: 1536033; Supplier 3: Newark; Supplier Part Number 3: 87H2889; Supplier 4: Mouser; Supplier Part Number 4: 595-TPS5124DBT; Eco-Plan: Green (RoHS & no Sb/Br); Iout2(A): 20; Vout2(Max)(V): 12; Vout2(Min)(V): 0.9; Mounting Technology: Surface Mount; Code_JEDEC: MO-153; ComponentLink1Description: Datasheet; ComponentLink1URL: http://www.ti.com/general/docs/lit/getliterature.tsp?genericPartNumber=TPS5124&fileType=pdf; ComponentLink2Description: Package Specification; ComponentLink2URL: http://www.ti.com/litv/pdf/mpds019h
footprint DBT30_N (TSSOP, 30-Leads, Body 7.8x4.4mm, Pitch 0.5mm, IPC Medium Density)
footprint DBT30_L (TSSOP, 30-Leads, Body 7.8x4.4mm, Pitch 0.5mm, IPC High Density)
footprint DBT30_M (TSSOP, 30-Leads, Body 7.8x4.4mm, Pitch 0.5mm, IPC Low Density)
pins: 1 INV1 (in) "Inverting inputs of Channel 1 error amplifier and OVP1/UVP1 comparator.", 2 FB1 (out) "Feedback output of SBRC-Channel 1 error amplifier.", 3 SS1 (in) "Soft start control for Channel 1. Connect an external capacitor between this pin and GND to specify SOFTSTART time.", 4 NC "No connection.", 5 CT "External capacitor from CT to GND adjusts frequency of the triangle oscillator.", 6 NC "No connection.", 7 GND (power) "Signal GND.", 8 REF (out) "0.85-V reference voltage output. This 0.85-V reference voltage is used to set the output voltage and the reference for the overvoltage and undervoltage protections. This reference voltage is dropped down from the internal (See Datasheet)", 9 STBY1 (in) "Standby control input for Channel 1. It can be switched into standby mode by grounding the STBY1 pin.", 10 STBY2 (in) "Standby control input for Channel 2. It can be switched into standby mode by grounding the STBY2 pin.", 11 SCP (in) "Fault latch timer pin. An external capacitor connected between SCP and GND sets SCP enable time up.", 12 NC "No connection.", 13 SS2 (in) "Soft start control for Channel 2. Connect an external capacitor between this pin and GND to specify SOFTSTART time.", 14 FB2 (out) "Feedback output of SBRC-Channel 2 error amplifier.", 15 INV2 (in) "Inverting inputs of Channel 2 error amplifier and OVP2/UVP2 comparator.", 16 LH2 (power) "Bootstrap capacitor connection for Channel 2 high-side gate driver.", 17 OUT2_U (out) "Gate drive output for Channel 2 high-side MOSFETs.", 18 LL2 (power) "CH2 high-side gate driving return. Connect this pin to the junction of the high-side and low-side MOSFETs for floating drive configuration. This pin is also an input terminal for current comparator.", 19 OUT2_D (out) "Gate drive output for Channel 2 low-side MOSFETs.", 20 OUTGND2 (power) "Ground for Channel 2 MOSFET drivers.", 21 VLSD (power) "Supply voltage input for low side driver. Typically connected to VREF5 with R-C filter when VVCC is between 6.5V and 15V and connected to VCC with filter when VVCC is between 4.5 V and 5.5 V.", 22 VREF5 (power) "5V linear regulator output. When VVCC is between 4.5V and 5.5V should be connected to VCC.", 23 TRIP2 (in) "External resistor connection for Channel 2 output current protection control.", 24 VCC (power) "Supply voltage input", 25 TRIP1 (in) "External resistor connection for Channel 1 output current protection control.", 26 OUTGND1 (power) "Ground for Channel 1 MOSFET drivers.", 27 OUT1_D (out) "Gate drive output for Channel 1 low-side MOSFETs.", 28 LL1 (power) "CH1 high-side gate driving return. Connect this pin to the junction of the high-side and low-side MOSFETs for floating drive configuration. This pin is also an input terminal for current comparator.", 29 OUT1_U (out) "Gate drive output for Channel 1 high-side MOSFETs.", 30 LH1 (power) "Bootstrap capacitor connection for Channel 1 high-side gate driver."

## TPS5124DBTG4
designator U?
Dual Channel Synchronous Step-Down PWM Controller, 80 % Duty Cycle, 4.5 to 15 V, -40 to 85 degC, 30-pin TSSOP (DBT), Green (RoHS & no Sb/Br); Manufacturer: Texas Instruments; PartNumber: TPS5124DBTG4; Duty Cycle(Max)(%): 80; Iout(Max)(A): 20; Regulated Outputs(#): 2; SubFamily: Multiple-Output Switching Controller; Switching Frequency(Max)(kHz): 500; Synchronous Rectification: TRUE; Topology: Buck; Vin(Max)(V): 15; Vin(Min)(V): 4.5; Vout(Max)(V): 12; Vout(Min)(V): 0.9; DatasheetVersion: SLUS571; PackageVersion: Sep-2005; PackageReference: DBT30; PackageDescription: 30-Pin Thin Shrink Small Outline Package 0.5 mm Pitch; Supplier 1: Digi-Key; Supplier Part Number 1: TPS5124DBTG4-ND; Supplier 2: Newark; Supplier Part Number 2: 67K8640; Supplier 3: Mouser; Supplier Part Number 3: 595-TPS5124DBTG4; Eco-Plan: Green (RoHS & no Sb/Br); Iout2(A): 20; Vout2(Max)(V): 12; Vout2(Min)(V): 0.9; Mounting Technology: Surface Mount; Code_JEDEC: MO-153; ComponentLink1Description: Datasheet; ComponentLink1URL: http://www.ti.com/general/docs/lit/getliterature.tsp?genericPartNumber=TPS5124&fileType=pdf; ComponentLink2Description: Package Specification; ComponentLink2URL: http://www.ti.com/litv/pdf/mpds019h
footprint DBT30_N (TSSOP, 30-Leads, Body 7.8x4.4mm, Pitch 0.5mm, IPC Medium Density)
footprint DBT30_L (TSSOP, 30-Leads, Body 7.8x4.4mm, Pitch 0.5mm, IPC High Density)
footprint DBT30_M (TSSOP, 30-Leads, Body 7.8x4.4mm, Pitch 0.5mm, IPC Low Density)
pins: 1 INV1 (in) "Inverting inputs of Channel 1 error amplifier and OVP1/UVP1 comparator.", 2 FB1 (out) "Feedback output of SBRC-Channel 1 error amplifier.", 3 SS1 (in) "Soft start control for Channel 1. Connect an external capacitor between this pin and GND to specify SOFTSTART time.", 4 NC "No connection.", 5 CT "External capacitor from CT to GND adjusts frequency of the triangle oscillator.", 6 NC "No connection.", 7 GND (power) "Signal GND.", 8 REF (out) "0.85-V reference voltage output. This 0.85-V reference voltage is used to set the output voltage and the reference for the overvoltage and undervoltage protections. This reference voltage is dropped down from the internal (See Datasheet)", 9 STBY1 (in) "Standby control input for Channel 1. It can be switched into standby mode by grounding the STBY1 pin.", 10 STBY2 (in) "Standby control input for Channel 2. It can be switched into standby mode by grounding the STBY2 pin.", 11 SCP (in) "Fault latch timer pin. An external capacitor connected between SCP and GND sets SCP enable time up.", 12 NC "No connection.", 13 SS2 (in) "Soft start control for Channel 2. Connect an external capacitor between this pin and GND to specify SOFTSTART time.", 14 FB2 (out) "Feedback output of SBRC-Channel 2 error amplifier.", 15 INV2 (in) "Inverting inputs of Channel 2 error amplifier and OVP2/UVP2 comparator.", 16 LH2 (power) "Bootstrap capacitor connection for Channel 2 high-side gate driver.", 17 OUT2_U (out) "Gate drive output for Channel 2 high-side MOSFETs.", 18 LL2 (power) "CH2 high-side gate driving return. Connect this pin to the junction of the high-side and low-side MOSFETs for floating drive configuration. This pin is also an input terminal for current comparator.", 19 OUT2_D (out) "Gate drive output for Channel 2 low-side MOSFETs.", 20 OUTGND2 (power) "Ground for Channel 2 MOSFET drivers.", 21 VLSD (power) "Supply voltage input for low side driver. Typically connected to VREF5 with R-C filter when VVCC is between 6.5V and 15V and connected to VCC with filter when VVCC is between 4.5 V and 5.5 V.", 22 VREF5 (power) "5V linear regulator output. When VVCC is between 4.5V and 5.5V should be connected to VCC.", 23 TRIP2 (in) "External resistor connection for Channel 2 output current protection control.", 24 VCC (power) "Supply voltage input", 25 TRIP1 (in) "External resistor connection for Channel 1 output current protection control.", 26 OUTGND1 (power) "Ground for Channel 1 MOSFET drivers.", 27 OUT1_D (out) "Gate drive output for Channel 1 low-side MOSFETs.", 28 LL1 (power) "CH1 high-side gate driving return. Connect this pin to the junction of the high-side and low-side MOSFETs for floating drive configuration. This pin is also an input terminal for current comparator.", 29 OUT1_U (out) "Gate drive output for Channel 1 high-side MOSFETs.", 30 LH1 (power) "Bootstrap capacitor connection for Channel 1 high-side gate driver."

## TPS5124DBTR
designator U?
Dual Channel Synchronous Step-Down PWM Controller, 80 % Duty Cycle, 4.5 to 15 V, -40 to 85 degC, 30-pin TSSOP (DBT), Green (RoHS & no Sb/Br); Manufacturer: Texas Instruments; PartNumber: TPS5124DBTR; Duty Cycle(Max)(%): 80; Iout(Max)(A): 20; Regulated Outputs(#): 2; SubFamily: Multiple-Output Switching Controller; Switching Frequency(Max)(kHz): 500; Synchronous Rectification: TRUE; Topology: Buck; Vin(Max)(V): 15; Vin(Min)(V): 4.5; Vout(Max)(V): 12; Vout(Min)(V): 0.9; DatasheetVersion: SLUS571; PackageVersion: Sep-2005; PackageReference: DBT30; PackageDescription: 30-Pin Thin Shrink Small Outline Package 0.5 mm Pitch; Supplier 1: Digi-Key; Supplier Part Number 1: TPS5124DBTR-ND; Supplier 2: Newark; Supplier Part Number 2: 87H2890; Supplier 3: Mouser; Supplier Part Number 3: 595-TPS5124DBTR; Eco-Plan: Green (RoHS & no Sb/Br); Iout2(A): 20; Vout2(Max)(V): 12; Vout2(Min)(V): 0.9; Mounting Technology: Surface Mount; Code_JEDEC: MO-153; ComponentLink1Description: Datasheet; ComponentLink1URL: http://www.ti.com/general/docs/lit/getliterature.tsp?genericPartNumber=TPS5124&fileType=pdf; ComponentLink2Description: Package Specification; ComponentLink2URL: http://www.ti.com/litv/pdf/mpds019h
footprint DBT30_N (TSSOP, 30-Leads, Body 7.8x4.4mm, Pitch 0.5mm, IPC Medium Density)
footprint DBT30_L (TSSOP, 30-Leads, Body 7.8x4.4mm, Pitch 0.5mm, IPC High Density)
footprint DBT30_M (TSSOP, 30-Leads, Body 7.8x4.4mm, Pitch 0.5mm, IPC Low Density)
pins: 1 INV1 (in) "Inverting inputs of Channel 1 error amplifier and OVP1/UVP1 comparator.", 2 FB1 (out) "Feedback output of SBRC-Channel 1 error amplifier.", 3 SS1 (in) "Soft start control for Channel 1. Connect an external capacitor between this pin and GND to specify SOFTSTART time.", 4 NC "No connection.", 5 CT "External capacitor from CT to GND adjusts frequency of the triangle oscillator.", 6 NC "No connection.", 7 GND (power) "Signal GND.", 8 REF (out) "0.85-V reference voltage output. This 0.85-V reference voltage is used to set the output voltage and the reference for the overvoltage and undervoltage protections. This reference voltage is dropped down from the internal (See Datasheet)", 9 STBY1 (in) "Standby control input for Channel 1. It can be switched into standby mode by grounding the STBY1 pin.", 10 STBY2 (in) "Standby control input for Channel 2. It can be switched into standby mode by grounding the STBY2 pin.", 11 SCP (in) "Fault latch timer pin. An external capacitor connected between SCP and GND sets SCP enable time up.", 12 NC "No connection.", 13 SS2 (in) "Soft start control for Channel 2. Connect an external capacitor between this pin and GND to specify SOFTSTART time.", 14 FB2 (out) "Feedback output of SBRC-Channel 2 error amplifier.", 15 INV2 (in) "Inverting inputs of Channel 2 error amplifier and OVP2/UVP2 comparator.", 16 LH2 (power) "Bootstrap capacitor connection for Channel 2 high-side gate driver.", 17 OUT2_U (out) "Gate drive output for Channel 2 high-side MOSFETs.", 18 LL2 (power) "CH2 high-side gate driving return. Connect this pin to the junction of the high-side and low-side MOSFETs for floating drive configuration. This pin is also an input terminal for current comparator.", 19 OUT2_D (out) "Gate drive output for Channel 2 low-side MOSFETs.", 20 OUTGND2 (power) "Ground for Channel 2 MOSFET drivers.", 21 VLSD (power) "Supply voltage input for low side driver. Typically connected to VREF5 with R-C filter when VVCC is between 6.5V and 15V and connected to VCC with filter when VVCC is between 4.5 V and 5.5 V.", 22 VREF5 (power) "5V linear regulator output. When VVCC is between 4.5V and 5.5V should be connected to VCC.", 23 TRIP2 (in) "External resistor connection for Channel 2 output current protection control.", 24 VCC (power) "Supply voltage input", 25 TRIP1 (in) "External resistor connection for Channel 1 output current protection control.", 26 OUTGND1 (power) "Ground for Channel 1 MOSFET drivers.", 27 OUT1_D (out) "Gate drive output for Channel 1 low-side MOSFETs.", 28 LL1 (power) "CH1 high-side gate driving return. Connect this pin to the junction of the high-side and low-side MOSFETs for floating drive configuration. This pin is also an input terminal for current comparator.", 29 OUT1_U (out) "Gate drive output for Channel 1 high-side MOSFETs.", 30 LH1 (power) "Bootstrap capacitor connection for Channel 1 high-side gate driver."